# EAGLE library part 74*164 (library Elecrow_IC)
8-bit serial-in,parallel-out shift register http://www.nxp.com/documents/data_sheet/74HC_HCT164.pdf
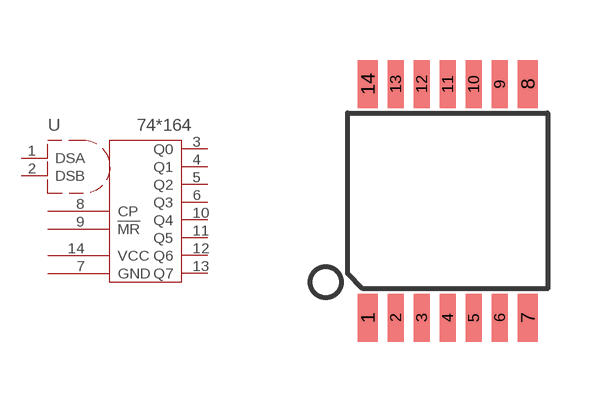
[diagram p51: symbol with the pads of TSSOP14; footprint TSSOP14]

Designator prefix U

## 74HC164PW, 74HCT164PW  [TSSOP14]
1  DSA
2  DSB
3  Q0
4  Q1
5  Q2
6  Q3
7  GND  sup
8  CP  in
9  !MR  in
10  Q4
11  Q5
12  Q6
13  Q7
14  VCC  sup

## Footprint TSSOP14 (pad centres in mm)
smd 0.5 x 1.2: 1 -2,-2.925; 7 2,-2.925; 8 2,2.925; 14 -2,2.925
smd 0.4 x 1.2: 2 -1.3,-2.925; 3 -0.65,-2.925; 4 0,-2.925; 5 0.65,-2.925; 6 1.3,-2.925; 9 1.3,2.925; 10 0.65,2.925; 11 0,2.925; 12 -0.65,2.925; 13 -1.3,2.925